# Altium footprint library ZTC043ZEBTL_PCBlib.PcbLib: 1 footprints
Each footprint in its own frame and in the unit in brackets; x right, y up, seen from the top. Pads: shape width x height; smd on the part's side, far side on the other; paste and mask are expansions set on the pad; w line width, h text height; cw(c..) or ccw(c..) is an arc to the next point about the centre after c.
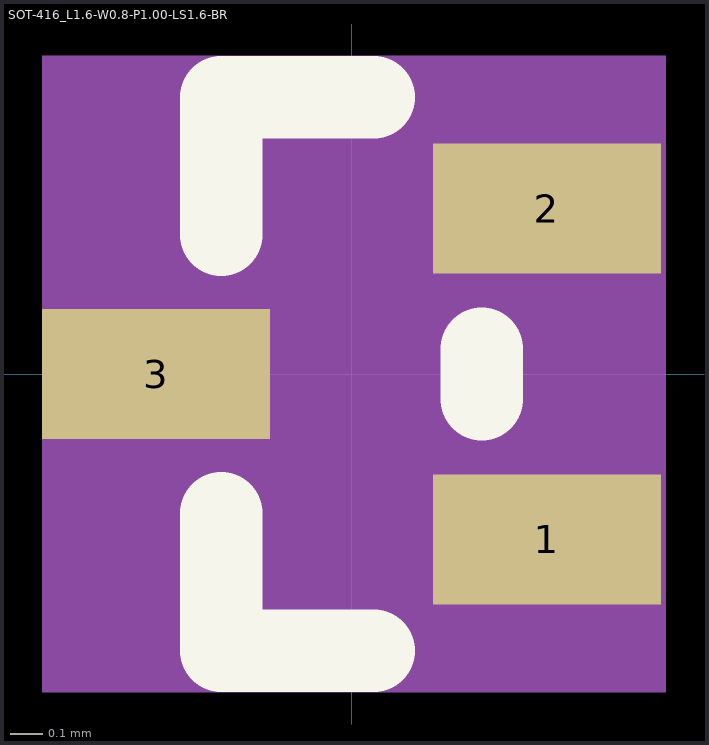
[diagram p0: the footprint, top view; thin cyan lines are the x and y axes]

## SOT-416_L1.6-W0.8-P1.00-LS1.6-BR [mm]
pads (3):
  rect 0.7x0.4 smd: 1(0.6,-0.508) 2(0.6,0.508) 3(-0.6,0)
Top Overlay:
  lines w0.254: -0.4,-0.428 -0.4,-0.85 0.068,-0.85 ; -0.4,0.428 -0.4,0.85 0.068,0.85 ; 0.4,-0.077 0.4,0.077
Mechanical 4:
  region: -0.95,0.977 0.965,0.977 0.965,-0.977 -0.95,-0.977
Mechanical 5:
  region: -0.95,0.2 -0.25,0.2 -0.25,-0.2 -0.95,-0.2
  region: 0.25,0.708 0.95,0.708 0.95,0.308 0.25,0.308
  region: 0.25,-0.308 0.95,-0.308 0.95,-0.708 0.25,-0.708